# EAGLE library part TPA2006D1DRBT (library TPA2006D1DRBT)
CLASS-D AUDIO POWER AMPLIFIER
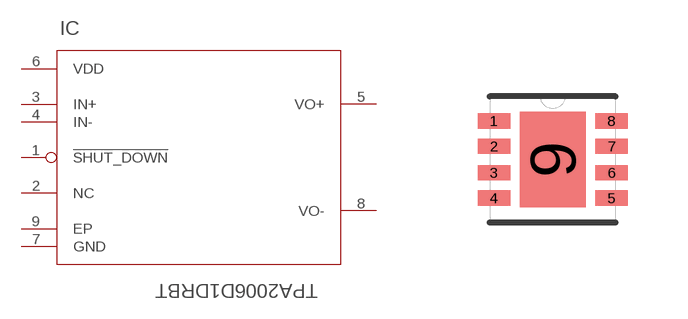
[diagram p0: symbol with the pads of SON65P300X300X100-9N; footprint SON65P300X300X100-9N]

Designator prefix IC

## TPA2006D1DRBT (AVAILABILITY: Unavailable; DESCRIPTION: Amplifier IC 1-Channel _Mono_ Class D 8-SON _3x3_; MF: Texas Instruments; MP: TPA2006D1DRBT; PACKAGE: SON-8 Texas Instruments; PRICE: None)  [SON65P300X300X100-9N]
1  !SHUT_DOWN  in
2  NC  nc
3  IN+  in
4  IN-  in
5  VO+  out
6  VDD  pwr
7  GND  pas
8  VO-  out
9  EP  pas

## Footprint SON65P300X300X100-9N (pad centres in mm)
smd 0.813 x 0.381: 1 -1.473,0.965; 2 -1.473,0.33; 3 -1.473,-0.33; 4 -1.473,-0.965; 5 1.473,-0.965; 6 1.473,-0.33; 7 1.473,0.33; 8 1.473,0.965
smd 1.651 x 2.388: 9 0,0